# EAGLE library part XF2M-4015 (library cape)
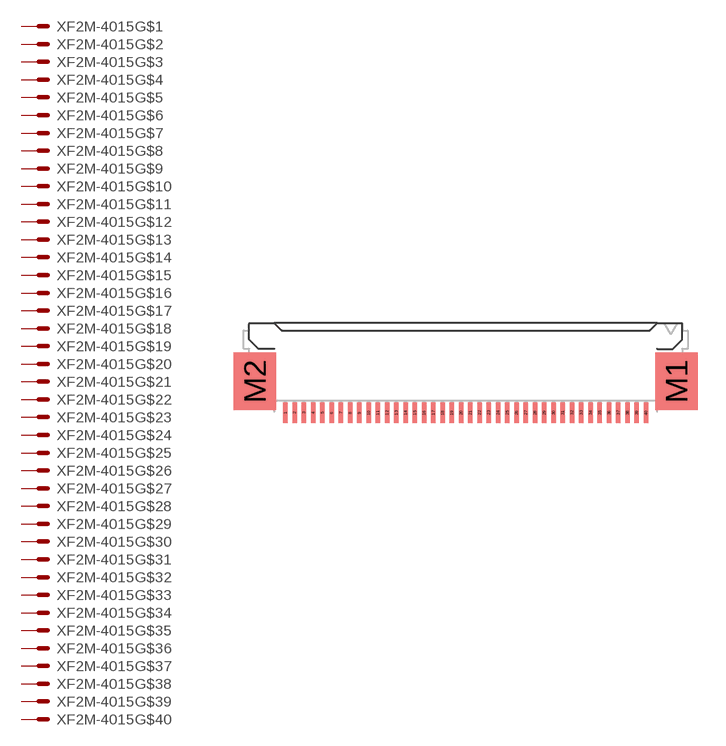
[diagram p7: symbol with the pads of XF2M-4015; footprint XF2M-4015]

Designator prefix XF2M-4015; gates G$1=PIN G$2=PIN G$3=PIN G$4=PIN G$5=PIN G$6=PIN G$7=PIN G$8=PIN G$9=PIN G$10=PIN G$11=PIN G$12=PIN G$13=PIN G$14=PIN G$15=PIN G$16=PIN G$17=PIN G$18=PIN G$19=PIN G$20=PIN G$21=PIN G$22=PIN G$23=PIN G$24=PIN G$25=PIN G$26=PIN G$27=PIN G$28=PIN G$29=PIN G$30=PIN G$31=PIN G$32=PIN G$33=PIN G$34=PIN G$35=PIN G$36=PIN G$37=PIN G$38=PIN G$39=PIN G$40=PIN

## XF2M-4015  [XF2M-4015]
1  G$1:MS  pas
2  G$2:MS  pas
3  G$3:MS  pas
4  G$4:MS  pas
5  G$5:MS  pas
6  G$6:MS  pas
7  G$7:MS  pas
8  G$8:MS  pas
9  G$9:MS  pas
10  G$10:MS  pas
11  G$11:MS  pas
12  G$12:MS  pas
13  G$13:MS  pas
14  G$14:MS  pas
15  G$15:MS  pas
16  G$16:MS  pas
17  G$17:MS  pas
18  G$18:MS  pas
19  G$19:MS  pas
20  G$20:MS  pas
21  G$21:MS  pas
22  G$22:MS  pas
23  G$23:MS  pas
24  G$24:MS  pas
25  G$25:MS  pas
26  G$26:MS  pas
27  G$27:MS  pas
28  G$28:MS  pas
29  G$29:MS  pas
30  G$30:MS  pas
31  G$31:MS  pas
32  G$32:MS  pas
33  G$33:MS  pas
34  G$34:MS  pas
35  G$35:MS  pas
36  G$36:MS  pas
37  G$37:MS  pas
38  G$38:MS  pas
39  G$39:MS  pas
40  G$40:MS  pas

## Footprint XF2M-4015 (pad centres in mm)
smd 0.25 x 1.1: 1 -9.75,-2.54; 2 -9.25,-2.54; 3 -8.75,-2.54; 4 -8.25,-2.54; 5 -7.75,-2.54; 6 -7.25,-2.54; 7 -6.75,-2.54; 8 -6.25,-2.54; 9 -5.75,-2.54; 10 -5.25,-2.54; 11 -4.75,-2.54; 12 -4.25,-2.54; 13 -3.75,-2.54; 14 -3.25,-2.54; 15 -2.75,-2.54; 16 -2.25,-2.54; 17 -1.75,-2.54; 18 -1.25,-2.54; 19 -0.75,-2.54; 20 -0.25,-2.54; 21 0.25,-2.54; 22 0.75,-2.54; 23 1.25,-2.54; 24 1.75,-2.54; 25 2.25,-2.54; 26 2.75,-2.54; 27 3.25,-2.54; 28 3.75,-2.54; 29 4.25,-2.54; 30 4.75,-2.54; 31 5.25,-2.54; 32 5.75,-2.54; 33 6.25,-2.54; 34 6.75,-2.54; 35 7.25,-2.54; 36 7.75,-2.54; 37 8.25,-2.54; 38 8.75,-2.54; 39 9.25,-2.54; 40 9.75,-2.54
smd 2.3 x 3.1: M1 11.4,-0.84; M2 -11.4,-0.84